# Altium schematic symbol library SCH_Wearing_sensor.SchLib: 56 symbols
Pins are listed as number, name and electrical type; pins without a type are passive.

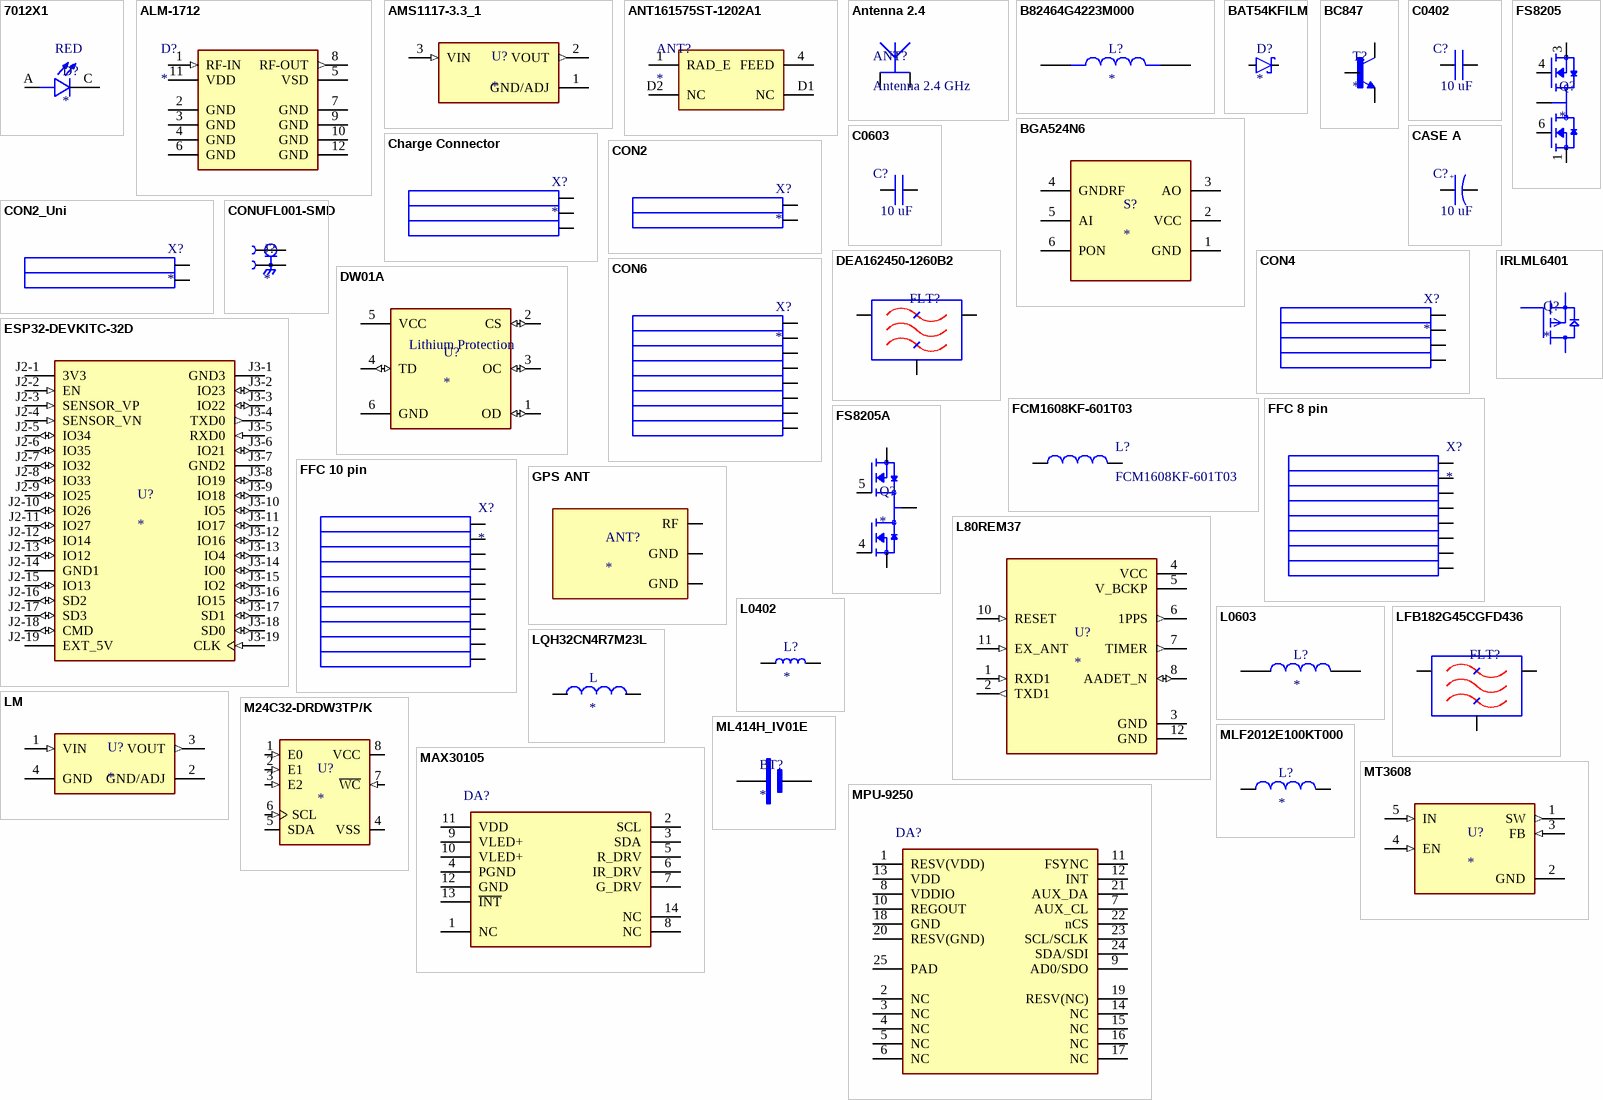
[diagram p0: symbols 7012X1 to MT3608]

## 7012X1
designator D?
Red - LED Indication - Discrete 1.7V 0805 (2012 Metric); Manufacturer: VCC; ManufacturerPartnumber: 7012X1; BOM: Светодиод    7012X1 VCC; Human_Readable: Светодиод; Footprint_Description: 0805 Visual Communications; Purchase-URL: https://pricing.snapeda.com/search/part/7012X1/?ref=eda; Value: *; Availability: In Stock; SnapEDA_Link: https://www.snapeda.com/parts/7012X1/Visual+Communications/view-part/?ref=snap; Price: None; Check_prices: https://www.snapeda.com/parts/7012X1/Visual+Communications/view-part/?ref=eda; Parameter 3: *; Parameter 4: *
footprint LED_7012X1
pins: A, C
text: RED

## ALM-1712
designator D?
Sot223/Pkg 1-Amp 3.3-Volt Low Drop Out Voltage Regulatator; MF: Advanced Monolithic Systems; MP: AMS1117-3.3; Package: SOT-223 Seeed Technology; Value: *; Check_prices: https://www.snapeda.com/parts/AMS1117-3.3/Advanced+Monolithic+Systems/view-part/?ref=eda; Price: None; Availability: Not in stock; SnapEDA_Link: https://www.snapeda.com/parts/AMS1117-3.3/Advanced+Monolithic+Systems/view-part/?ref=snap
footprint ALM-1712
pins: 1 RF-IN (in), 2 GND, 3 GND, 4 GND, 5 VSD (power), 6 GND, 7 GND, 8 RF-OUT (out), 9 GND, 10 GND, 11 VDD, 12 GND

## AMS1117-3.3_1
designator U?
Sot223/Pkg 1-Amp 3.3-Volt Low Drop Out Voltage Regulatator; MF: Advanced Monolithic Systems; MP: AMS1117-3.3; Package: SOT-223 Seeed Technology; Value: *; Check_prices: https://www.snapeda.com/parts/AMS1117-3.3/Advanced+Monolithic+Systems/view-part/?ref=eda; Price: None; Availability: Not in stock; SnapEDA_Link: https://www.snapeda.com/parts/AMS1117-3.3/Advanced+Monolithic+Systems/view-part/?ref=snap
footprint SOT229P700X180-4N
pins: 1 GND/ADJ (power), 2 VOUT (out), 3 VIN (in)

## ANT161575ST-1202A1
designator ANT?
ManufacturerPartnumber: AMAN1003030ST01; Manufacturer: AMOTECH; BOM: GPS Antenna    AMAN1003030ST01 AMOTECH; Human_Readable: GPS Antenna; Footprint_Description: Custom
footprint ANT161575ST1202A1
pins: 1 RAD_E, 4 FEED, D1 NC, D2 NC

## Antenna 2.4
designator ANT?, comment Antenna 2.4 GHz
footprint ANT2-SMD-9.5X2.1X1.0MM
pins: 1 0, 2 1

## B82464G4223M000
designator L?
MF: TDK ELECTRONICS; MP: B82464G4223M000; Check_prices: https://www.snapeda.com/parts/B82464G4223M000/TM+Electronics/view-part/?ref=eda; Package: None; Value: *; SnapEDA_Link: https://www.snapeda.com/parts/B82464G4223M000/TM+Electronics/view-part/?ref=snap; Purchase-URL: https://pricing.snapeda.com/search/part/B82464G4223M000/?ref=eda
footprint IND_B82464G4223M000
pins: 1, 2

## BAT54KFILM
designator D?
Diode Schottky; Manufacturer: STMicroelectronics; ManufacturerPartnumber: BAT54KFILM; BOM: Diode schottky    BAT54KFILM STMicroelectronics; Package: None; Price: None; Value: *; Availability: Unavailable; Footprint_Description: SOD523; Human_Readable: Diode schottky; Parameter 4: *
footprint SOD523
footprint SOD523
pins: 1 K, 2 A

## BC847
designator T?
<b>NPN TRANSISTOR</b>; MP: BC847; Availability: Unavailable; Package: None; Value: *; Price: None
footprint SOT23
pins: 1 B, 2 E, 3 C

## BGA524N6
designator S?
RF Switch SPDT 50MHz to 6GHz 21dB T/R; ManufacturerPartnumber: BGS12WN6E6327XTSA1; Manufacturer: Infineon; BOM: Усилитель GPS    BGS12WN6E6327XTSA1 Infineon; Human_Readable: Усилитель GPS; Price: None; Value: *; Availability: Unavailable; Package: None; Footprint_Description: PG-TSNP-6-1; Parameter 4: *
footprint SW_BGS12WN6E6327XTSA1
pins: 1 GND, 2 VCC, 3 AO, 4 GNDRF, 5 AI, 6 PON

## C0402
designator C?  value 10 uF  (hidden comment: *)
footprint C0402
pins: 1, 2

## C0603
designator C?  value 10 uF  (hidden comment: *)
footprint C0603
pins: 1, 2

## CASE A
designator C?  value 10 uF  (hidden comment: *)
Танталовых конденсатор в корупесе А
footprint CASE A
pins: 1, 2
text: +

## Charge Connector
designator X?
Выводы под плату зарядки
footprint POGO PINS
pins: 1, 2, 3

## CON2
designator X?
Коннектор двухконтактный; ManufacturerPartnumber: LP401230; Manufacturer: Robiton; BOM: Аккумулятор литий ионный    LP401230 Robiton; Human_Readable: Аккумулятор литий ионный; Footprint_Description: Custom
footprint CON2
footprint CON4_bat
pins: 1, 2

## CON2_Uni
designator X?
Коннектор для соединения плат; BOM: *    * *; ManufacturerPartnumber: *; Manufacturer: *; Footprint_Description: *; Human_Readable: *
footprint Con2_uni
pins: 1, 2

## CON4
designator X?
Коннектор 4-х контактный; ManufacturerPartnumber: PLS-4; Manufacturer: Connfly; BOM: Разъем 4 контакта    PLS-4 Connfly; Human_Readable: Разъем 4 контакта; Footprint_Description: PLS-4
footprint CON4
pins: 1, 2, 3, 4

## CON6
designator X?
Коннектор 6-ти контактный; ManufacturerPartnumber: PLS-4; Manufacturer: Connfly; BOM: Разъем 4 контакта    PLS-4 Connfly; Human_Readable: Разъем 4 контакта; Footprint_Description: PLS-4
footprint CON6
pins: 1, 2, 3, 4, 5, 6, 7, 8

## CONUFL001-SMD
designator J?
Manufacturer: TE Connectivity; ManufacturerPartnumber: 1909763-1; BOM: UMCC разъем    1909763-1 TE Connectivity; Human_Readable: UMCC разъем; Availability: In Stock; Price: None; SnapEDA_Link: https://www.snapeda.com/parts/CONUFL001-SMD/Linx/view-part/5842340/?ref=snap; Value: *; Check_prices: https://www.snapeda.com/parts/CONUFL001-SMD/Linx/view-part/5842340/?ref=eda; Package: None; Footprint_Description: UMCC; Parameter 4: *; Parameter 5: *
footprint LINX_CONUFL001-SMD
pins: 1, 2, 3 2

## DEA162450-1260B2
designator FLT?  (value not drawn)
Band Pass Filter TDK DEA162450-1260B2; BOM: Фильтр BLE    DEA162450-1260B2 TDK; Human_Readable: Фильтр BLE; ManufacturerPartnumber: DEA162450-1260B2; Manufacturer: TDK; Footprint_Description: SMD-3
footprint FIL_DEA160915LT-1169
pins: 1, 2, 3

## DW01A
designator U?
One Cell Lithium-ion/Polymer Battery Protection IC; MF: Fortune Semiconductor; MP: DW01A; SnapEDA_Link: https://www.snapeda.com/parts/DW01A/Fortune+Semiconductor/view-part/?ref=snap; Package: SOT-23-6 Fortune Semiconductor; Value: *; Check_prices: https://www.snapeda.com/parts/DW01A/Fortune+Semiconductor/view-part/?ref=eda
footprint SOT23-6
pins: 1 OD (io), 2 CS (io), 3 OC (io), 4 TD (io), 5 VCC (power), 6 GND (power)
text: Lithium Protection

## ESP32-DEVKITC-32D
designator U?
WiFi Development Tools (802.11) ESP32 General Development Kit, ESP32-WROOM-32D on the board; MF: Espressif Systems; MP: ESP32-DEVKITC-32D; SnapEDA_Link: https://www.snapeda.com/parts/ESP32-DEVKITC-32D/Espressif+Systems/view-part/?ref=snap; Package: None; Value: *; Check_prices: https://www.snapeda.com/parts/ESP32-DEVKITC-32D/Espressif+Systems/view-part/?ref=eda
footprint MODULE_ESP32-DEVKITC-32D
pins: J2-1 3V3 (power), J2-2 EN (in), J2-3 SENSOR_VP (in), J2-4 SENSOR_VN (in), J2-5 IO34 (io), J2-6 IO35 (io), J2-7 IO32 (io), J2-8 IO33 (io), J2-9 IO25 (io), J2-10 IO26 (io), J2-11 IO27 (io), J2-12 IO14 (io), J2-13 IO12 (io), J2-14 GND1 (power), J2-15 IO13 (io), J2-16 SD2 (io), J2-17 SD3 (io), J2-18 CMD (io), J2-19 EXT_5V (power), J3-1 GND3 (power), J3-2 IO23 (io), J3-3 IO22 (io), J3-4 TXD0 (out), J3-5 RXD0 (in), J3-6 IO21 (io), J3-7 GND2 (power), J3-8 IO19 (io), J3-9 IO18 (io), J3-10 IO5 (io), J3-11 IO17 (io), J3-12 IO16 (io), J3-13 IO4 (io), J3-14 IO0 (io), J3-15 IO2 (io), J3-16 IO15 (io), J3-17 SD1 (io), J3-18 SD0 (io), J3-19 CLK (in)

## FCM1608KF-601T03
designator L?
0; ManufacturerPartnumber: BLM18EG331TH1D; Manufacturer: Murata; BOM: Inductor    BLM18EG331TH1D Murata; Human_Readable: Inductor; SnapEDA_Link: https://www.snapeda.com/parts/BLM18EG331TH1D/Murata/view-part/2733946/?ref=snap; Price: None; Availability: Unavailable; Value: *; Footprint_Description: 0603 Murata; Parameter 3: *; Parameter 4: *
footprint BEADC1608X65N
footprint BEADC1608X65N
pins: 1, 2

## FFC 8 pin
designator X?
FFC connector 8 pin
footprint Charge Connector
footprint GCT_FFC2B35-08-G_REVA2
pins: 1, 2, 3, 4, 5, 6, 7, 8

## FFC 10 pin
designator X?
FFC connector 8 pin
footprint SAMTEC_ZF5S-10-01-T-WT
pins: 1, 2, 3, 4, 5, 6, 7, 8, 9, 10

## FS8205
designator Q?
Dual N-Channel Enhancement Mode Power MOSFET; MP: FS8205; MF: Fortune Semiconductor; SnapEDA_Link: https://www.snapeda.com/parts/FS8205/Fortune+Semiconductor/view-part/?ref=snap; Package: Package; Check_prices: https://www.snapeda.com/parts/FS8205/Fortune+Semiconductor/view-part/?ref=eda; Price: None; Value: *; Availability: Not in stock
footprint SOT95P280X145-6N
pins: 1 S1, 2 D12, 3 S2, 4 G2, 5 D12, 6 G1

## FS8205A
designator Q?
N/A; MP: FS8205A; MF: Fortune Semiconductor; Value: *; Availability: Not in stock; Package: Package; Price: None; SnapEDA_Link: https://www.snapeda.com/parts/FS8205A/Fortune+Semiconductor/view-part/?ref=snap; Check_prices: https://www.snapeda.com/parts/FS8205A/Fortune+Semiconductor/view-part/?ref=eda
footprint SOP65P640X120-8N
pins: 1 D12, 2 S1, 3 S1, 4 G1, 5 G2, 6 S2, 7 S2, 8 D12

## GPS ANT
designator ANT?
ManufacturerPartnumber: AMAN1003030ST01; Manufacturer: AMOTECH; BOM: GPS Antenna    AMAN1003030ST01 AMOTECH; Human_Readable: GPS Antenna; Footprint_Description: Custom
footprint ANTENNA GPS
pins: 1 RF, 2 GND, 3 GND

## IRLML6401
designator Q?
P-Channel 12V 4.3A (Ta) 1.3W (Ta) Surface Mount Micro3â„¢/SOT-23; Manufacturer: International Rectifier; ManufacturerPartnumber: IRLML6401; BOM: P-MOS    IRLML6401 International Rectifier; Human_Readable: P-MOS; Footprint_Description: SOT-23 International Rectifier; Value: *; Check_prices: https://www.snapeda.com/parts/IRLML6401/International%20Rectifier/view-part/557178/?ref=eda; Price: None; SnapEDA_Link: https://www.snapeda.com/parts/IRLML6401/International%20Rectifier/view-part/557178/?ref=snap; Availability: Unavailable; Parameter 3: *; Parameter 4: *
footprint SOT23
pins: 1 G, 2 S, 3 D

## L80REM37
designator U?
Navigation GPS Transceiver Module 1.575GHz Integrated, Ceramic Patch Surface Mount; ManufacturerPartnumber: L80REM37; Manufacturer: Quectel; BOM: *    L80REM37 Quectel; Package: None; Price: None; Purchase-URL: https://pricing.snapeda.com/search/part/L80REM37/?ref=eda; Availability: In Stock; Value: *; Check_prices: https://www.snapeda.com/parts/L80REM37/Quectel/view-part/?ref=eda; SnapEDA_Link: https://www.snapeda.com/parts/L80REM37/Quectel/view-part/?ref=snap; Footprint_Description: *; Human_Readable: *; Parameter 4: *
footprint XCVR_L80REM37
footprint XCVR_L80REM37
pins: 1 RXD1 (in), 2 TXD1 (out), 3 GND (power), 4 VCC (power), 5 V_BCKP (power), 6 1PPS (out), 7 TIMER (out), 8 AADET_N (io), 10 RESET (in), 11 EX_ANT (in), 12 GND (power)

## L0402
designator L?
Fixed Inductors 0402; MF: Murata; MP: LQG15HN1N5S00D; SnapEDA_Link: https://www.snapeda.com/parts/LQG15HN1N5S00D/Murata/view-part/1646487/?ref=snap; Price: None; Check_prices: https://www.snapeda.com/parts/LQG15HN1N5S00D/Murata/view-part/1646487/?ref=eda; Value: *; Availability: Bad; Package: 0402 Murata
footprint L0402
pins: 1, 2

## L0603
designator L?
Inductor with Inductance 10uH Tol.+/-20% Package 0603 (1608); MF: Murata; MP: LQM18DN100M70B; Value: *; Price: None; Package: 0603 Murata; Check_prices: https://www.snapeda.com/parts/LQM18DN100M70B/Murata/view-part/4901244/?ref=eda; SnapEDA_Link: https://www.snapeda.com/parts/LQM18DN100M70B/Murata/view-part/4901244/?ref=snap; Availability: Bad
footprint L0603
pins: 1, 2

## LFB182G45CGFD436
designator FLT?  (value not drawn)
Band Pass Filter Murata LFB182G45CGFD436; BOM: Фильтр BLE    LFB182G45CGFD436 Murata; Human_Readable: Фильтр BLE; ManufacturerPartnumber: LFB182G45CGFD436; Manufacturer: Murata; Footprint_Description: SMD-3
footprint FIL_LFB182G45CGFD436
pins: 1, 2, 3

## LM
designator U?
Sot223/Pkg 1-Amp 3.3-Volt Low Drop Out Voltage Regulatator; ManufacturerPartnumber: LM3940IMP-3.3; Manufacturer: Texas Instruments; MF: Advanced Monolithic Systems; MP: AMS1117-3.3; BOM: LDO    LM3940IMP-3.3 Texas Instruments; Human_Readable: LDO; Footprint_Description: SOT-223 Seeed Technology; Value: *; Check_prices: https://www.snapeda.com/parts/AMS1117-3.3/Advanced+Monolithic+Systems/view-part/?ref=eda; Price: None; Availability: Not in stock; SnapEDA_Link: https://www.snapeda.com/parts/AMS1117-3.3/Advanced+Monolithic+Systems/view-part/?ref=snap
footprint SOT229P700X180-4N
pins: 1 VIN (in), 2 GND/ADJ (power), 3 VOUT (out), 4 GND

## LQH32CN4R7M23L
designator L
Inductor with Inductance: 4.7uH Tol. +/-20%, Package: 1210 _3225_; MF: Murata; MP: LQH32CN4R7M23L; Price: None; Value: *; Availability: Unavailable; SnapEDA_Link: https://www.snapeda.com/parts/LQH32CN4R7M23L/Murata/view-part/4550092/?ref=snap; Package: Nonstandard Murata
footprint IND_LQH32CN4R7M23L
pins: 1, 2

## M24C32-DRDW3TP/K
designator U?
M24C02-F Series 2 Kb (256 x 8) 5.5 V Serial IÂ²C bus EEPROMs - TSSOP-8; ManufacturerPartnumber: M24C32-DRDW3TP/K; Manufacturer: STMicroelectronics; BOM: EEPROM    M24C32-DRDW3TP/K STMicroelectronics; Human_Readable: EEPROM; Package: None; Price: None; Value: *; Availability: Unavailable; Footprint_Description: TSSOP8
footprint SOP65P640X120-8N
pins: 1 E0 (in), 2 E1 (in), 3 E2 (in), 4 VSS (power), 5 SDA (io), 6 SCL (in), 7 ~{WC} (in), 8 VCC (power)

## MAX30105
designator DA?  (value not drawn)
Manufacturer: MAX; BOM: Датчик пульса    MPU-9250 MAX; Human_Readable: Датчик пульса; ComponentLink1Description: Help; ComponentLink1URL: D:\HSE\Трекер физ состояния\Help\MAX30105.pdf; HelpURL: D:\HSE\Трекер физ состояния\Help\MAX30105.pdf; ManufacturerPartnumber: MPU-9250; Footprint_Description: Custom
footprint MAX30105
pins: 1 NC, 2 SCL, 3 SDA, 4 PGND, 5 R_DRV, 6 IR_DRV, 7 G_DRV, 8 NC, 9 VLED+, 10 VLED+, 11 VDD, 12 GND, 13 ~{INT}, 14 NC

## ML414H_IV01E
designator BT?
Coin, 4.8mm 3 V Lithium Battery Rechargeable (Secondary) 1mAh; MP: ML414H IV01E; MF: Seiko Instruments; Human_Readable: Перезаряжаемая батарейка; BOM: Перезаряжаемая батарейка    ML414H IV01E Seiko Instruments; Price: None; Purchase-URL: https://pricing.snapeda.com/search/part/ML414H IV01E/?ref=eda; Package: SOT-89 Seiko; Check_prices: https://www.snapeda.com/parts/ML414H%20IV01E/Seiko+Instruments/view-part/?ref=eda; Value: *; Availability: In Stock; ManufacturerPartnumber: ML414H IV01E; Manufacturer: Seiko Instruments; Footprint_Description: SOT-89 Seiko
footprint SEIKO_ML414H_IV01E
pins: 1 POS, 2 NEG

## MLF2012E100KT000
designator L?
10 ÂµH Shielded Multilayer Inductor 15 mA 800mOhm Max 0805 (2012 Metric); MF: TDK; Value: 10 uH; MP: MLF2012E100KT000; BOM: MLF2012E100KT000 TDK; Package: 0805 TDK Corporation; Price: None; Check_prices: https://www.snapeda.com/parts/MLF2012E100KT000/TDK/view-part/?ref=eda; Availability: In Stock; Purchase-URL: https://pricing.snapeda.com/search?q=MLF2012E100KT000&ref=eda; ManufacturerPartnumber: MLF2012E100KT000; Manufacturer: TDK; Footprint_Description: 0805 TDK Corporation
footprint INDC2012X145N
footprint INDC2012X145N
pins: 1, 2

## MPU-9250
designator DA?, comment IventSense_MPU-9250  (value not drawn)
Manufacturer: InvenSense; Help: D:\HSE\Трекер физ состояния\Help\mpu9265.pdf; BOM: Акселерометр    MPU-9250 InvenSense; Human_Readable: Акселерометр; ComponentLink1Description: Help; ComponentLink1URL: D:\HSE\Трекер физ состояния\Help\mpu9265.pdf; ManufacturerPartnumber: MPU-9250; Footprint_Description: QFN23 3x3
footprint QFN24 3x3x1mm
pins: 1 RESV(VDD), 2 NC, 3 NC, 4 NC, 5 NC, 6 NC, 7 AUX_CL, 8 VDDIO, 9 AD0/SDO, 10 REGOUT, 11 FSYNC, 12 INT, 13 VDD, 14 NC, 15 NC, 16 NC, 17 NC, 18 GND, 19 RESV(NC), 20 RESV(GND), 21 AUX_DA, 22 nCS, 23 SCL/SCLK, 24 SDA/SDI, 25 PAD

## MT3608
designator U?
High Efficiency 1.2MHz2A Step Up Converter; MP: MT3608; MF: Aerosemi Technology Co., Ltd; Price: None; Availability: Not in stock; Package: Package; Value: *; SnapEDA_Link: https://www.snapeda.com/parts/MT3608/Aerosemi+Technology+Co.%252C+Ltd/view-part/?ref=snap; Check_prices: https://www.snapeda.com/parts/MT3608/Aerosemi+Technology+Co.%252C+Ltd/view-part/?ref=eda
footprint SOT95P280X145-6N
pins: 1 SW (out), 2 GND (power), 3 FB (in), 4 EN (in), 5 IN (in)

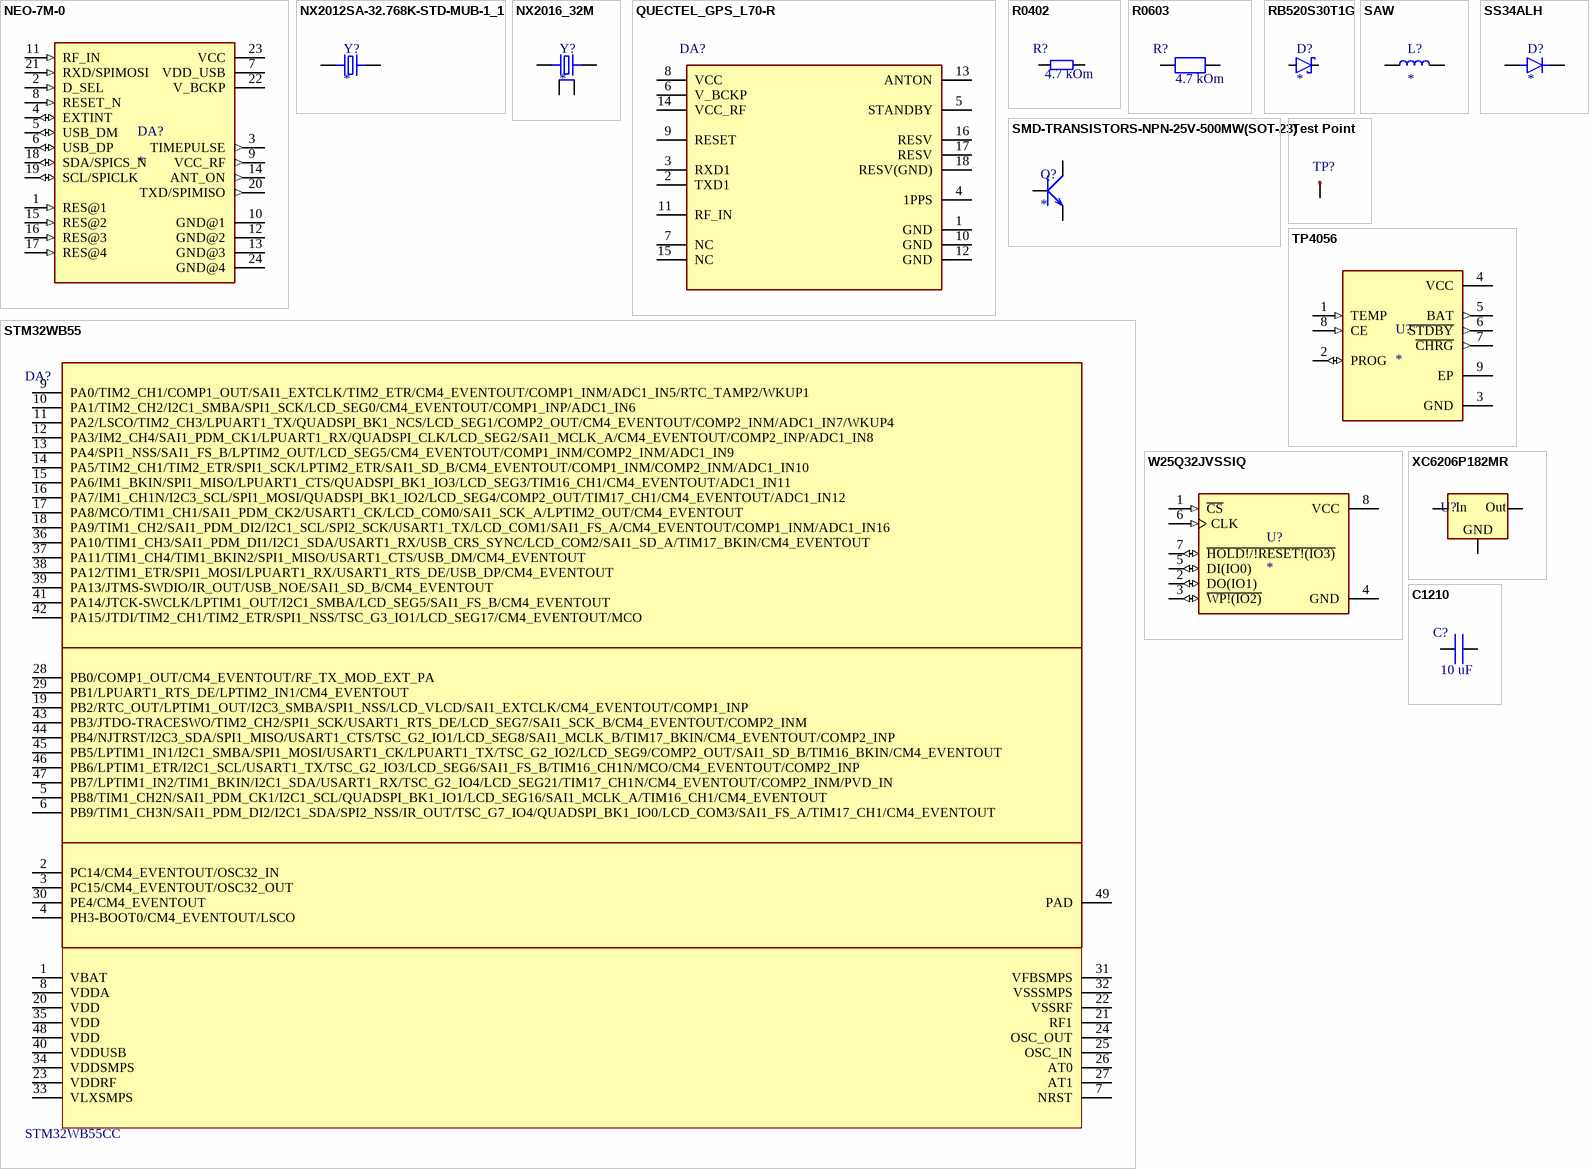
[diagram p1: symbols NEO-7M-0 to С1210]

## NEO-7M-0
designator DA?
NEO-7 RF Receiver GLONASS, GNSS, GPS 1.575GHz -161dBm; MP: NEO-7M-0; MF: U-Blox America; BOM: NEO-7M-0 U-Blox America; Availability: Unavailable; Package: SMD-24 u-blox; SnapEDA_Link: https://www.snapeda.com/parts/NEO-7M-0/U-Blox%20America%20Inc./view-part/48598/?ref=snap; Value: *; ManufacturerPartnumber: NEO-7M-0; Manufacturer: U-Blox America; Footprint_Description: SMD-24 u-blox
footprint XCVR_NEO-7M-0
pins: 1 RES@1 (in), 2 D_SEL (in), 3 TIMEPULSE (out), 4 EXTINT (io), 5 USB_DM (io), 6 USB_DP (io), 7 VDD_USB (power), 8 RESET_N (in), 9 VCC_RF (out), 10 GND@1 (power), 11 RF_IN (in), 12 GND@2 (power), 13 GND@3 (power), 14 ANT_ON (out), 15 RES@2 (in), 16 RES@3 (in), 17 RES@4 (in), 18 SDA/SPICS_N (io), 19 SCL/SPICLK (io), 20 TXD/SPIMISO (out), 21 RXD/SPIMOSI (in), 22 V_BCKP (power), 23 VCC (power), 24 GND@4 (power)

## NX2012SA-32.768K-STD-MUB-1_1
designator Y?
32.768 kHz Â±20ppm Crystal 12.5pF 80 kOhms 2-SMD, No Lead; MF: NDK America,; MP: NX2012SA-32.768K-STD-MUB-1; BOM: 32 kHz Crystal    NX2012SA-32.768K-STD-MUB-1 NDK America,; Human_Readable: 32 kHz Crystal; Package: SMD-2 NDK; Price: None; Check_prices: https://www.snapeda.com/parts/NX2012SA-32.768K-STD-MUB-1/NDK+America%252C+Inc./view-part/?ref=eda; Value: *; SnapEDA_Link: https://www.snapeda.com/parts/NX2012SA-32.768K-STD-MUB-1/NDK+America%252C+Inc./view-part/?ref=snap; Availability: In Stock; Purchase-URL: https://pricing.snapeda.com/search/part/NX2012SA-32.768K-STD-MUB-1/?ref=eda; ManufacturerPartnumber: NX2012SA-32.768K-STD-MUB-1; Manufacturer: NDK America,; Footprint_Description: SMD-2 NDK
footprint XTAL_NX2012SA-32.768K-STD-MUB-1
footprint XTAL_NX2012SA-32.768K-STD-MUB-1
pins: 1, 2

## NX2016_32M
designator Y?
32 MHz  Crystal; ManufacturerPartnumber: NX2016SA-32MHZ; MF: NDK America,; Value: 32 MHz; MP: NX2012SA-32.768K-STD-MUB-1; BOM: Crystal 32MHz    NX2016SA-32MHZ NDK America,; Human_Readable: Crystal 32MHz; Package: SMD-2 NDK; Price: None; Check_prices: https://www.snapeda.com/parts/NX2012SA-32.768K-STD-MUB-1/NDK+America%252C+Inc./view-part/?ref=eda; SnapEDA_Link: https://www.snapeda.com/parts/NX2012SA-32.768K-STD-MUB-1/NDK+America%252C+Inc./view-part/?ref=snap; Availability: In Stock; Purchase-URL: https://pricing.snapeda.com/search/part/NX2012SA-32.768K-STD-MUB-1/?ref=eda; Manufacturer: NDK America,; Footprint_Description: SMD-2 NDK
footprint NX2016_32M (Crystal 32M)
pins: 1 4, 2 1, 3, 4 2

## QUECTEL_GPS_L70-R
designator DA?, comment QUECTEL_L70-R_GPS  (value not drawn)
BOM: *    QUECTEL_L70-R_GPS *; ComponentLink1Description: Help; ComponentLink1URL: D:\HSE\Трекер физ состояния\Help\GPS_L70-R.pdf; ManufacturerPartnumber: QUECTEL_L70-R_GPS; Manufacturer: *; Footprint_Description: *; Human_Readable: *
footprint QUECTEL_L70-R
pins: 1 GND, 2 TXD1, 3 RXD1, 4 1PPS, 5 STANDBY, 6 V_BCKP, 7 NC, 8 VCC, 9 RESET, 10 GND, 11 RF_IN, 12 GND, 13 ANTON, 14 VCC_RF, 15 NC, 16 RESV, 17 RESV, 18 RESV(GND)

## R0402
designator R?  value 4.7 kOm
Резистор 0402
footprint R0402
pins: 1, 2

## R0603
designator R?  value 4.7 kOm
Резистор 0603
footprint R0603
pins: 1, 2

## RB520S30T1G
designator D?
Diode Schottky 30 V 200mA (DC) Surface Mount SOD-523; Manufacturer: NXP Semiconductors; MP: 1PS79SB70; Human_Readable: Diode Schotky; BOM: Diode Schotky    1PS79SB70 NXP Semiconductors; Package: None; Price: None; Value: *; ManufacturerPartnumber: 1PS79SB70; Footprint_Description: SOD523
footprint SOD523
footprint SOD523
pins: 1 K, 2 A

## SAW
designator L?
Fixed Inductors 0402; ManufacturerPartnumber: SAFEA1G58KA0F00R15; MF: Murata; MP: LQG15HN1N5S00D; BOM: Фильтр GPS    SAFEA1G58KA0F00R15 Murata; Human_Readable: Фильтр GPS; SnapEDA_Link: https://www.snapeda.com/parts/LQG15HN1N5S00D/Murata/view-part/1646487/?ref=snap; Price: None; Check_prices: https://www.snapeda.com/parts/LQG15HN1N5S00D/Murata/view-part/1646487/?ref=eda; Value: *; Availability: Bad; Package: 0402 Murata; Manufacturer: Murata; Footprint_Description: Custom
footprint SAW Filter; pin to pad 2>4
pins: 1, 2

## SMD-TRANSISTORS-NPN-25V-500MW(SOT-23)
designator Q?
Bipolar (BJT) Transistor NPN 25 V 500 mA 150MHz 300 mW Surface Mount SOT-23; MF: UMW; MP: S8050; Purchase-URL: https://pricing.snapeda.com/search/part/S8050/?ref=eda; Check_prices: https://www.snapeda.com/parts/S8050/Umwelt+Sensor+Teknik/view-part/?ref=eda; SnapEDA_Link: https://www.snapeda.com/parts/S8050/Umwelt+Sensor+Teknik/view-part/?ref=snap; Price: None; Availability: In Stock; Package: None; Value: *; Parameter 1: *; Parameter 2: *; Parameter 3: *; Parameter 4: *
footprint SOT23
pins: 1 B, 2 E, 3 C

## SS34ALH
designator D?
3A, 40V, Schottky Rectifier; MP: SS34ALH; MF: Taiwan Semiconductor; Package: DO-221AC Taiwan Semiconductor; Value: *; SnapEDA_Link: https://www.snapeda.com/parts/SS34ALH/Taiwan+Semiconductor/view-part/?ref=snap; Availability: Not in stock; Price: None; Check_prices: https://www.snapeda.com/parts/SS34ALH/Taiwan+Semiconductor/view-part/?ref=eda
footprint SODFL5226X100N
pins: 1 K, 2 A

## STM32WB55
designator DA?, comment STM32WB55CC
Manufacturer: STMicroelectronics; BOM: Микроконтроллер    STM32WB55CC STMicroelectronics; Human_Readable: Микроконтроллер; ComponentLink1Description: Help; ComponentLink1URL: D:\HSE\Трекер физ состояния\Help\stm32wb55cc.pdf; Footprint_Description: QFN48; ManufacturerPartnumber: STM32WB55CC
footprint UFQFPN48
pins: 1 VBAT, 2 PC14/CM4_EVENTOUT/OSC32_IN, 3 PC15/CM4_EVENTOUT/OSC32_OUT, 4 PH3-BOOT0/CM4_EVENTOUT/LSCO, 5 PB8/TIM1_CH2N/SAI1_PDM_CK1/I2C1_SCL/QUADSPI_BK1_IO1/LCD_SEG16/SAI1_MCLK_A/TIM16_CH1/CM4_EVENTOUT, 6 PB9/TIM1_CH3N/SAI1_PDM_DI2/I2C1_SDA/SPI2_NSS/IR_OUT/TSC_G7_IO4/QUADSPI_BK1_IO0/LCD_COM3/SAI1_FS_A/TIM17_CH1/CM4_EVENTOUT, 7 NRST, 8 VDDA, 9 PA0/TIM2_CH1/COMP1_OUT/SAI1_EXTCLK/TIM2_ETR/CM4_EVENTOUT/COMP1_INM/ADC1_IN5/RTC_TAMP2/WKUP1, 10 PA1/TIM2_CH2/I2C1_SMBA/SPI1_SCK/LCD_SEG0/CM4_EVENTOUT/COMP1_INP/ADC1_IN6, 11 PA2/LSCO/TIM2_CH3/LPUART1_TX/QUADSPI_BK1_NCS/LCD_SEG1/COMP2_OUT/CM4_EVENTOUT/COMP2_INM/ADC1_IN7/WKUP4, 12 PA3/IM2_CH4/SAI1_PDM_CK1/LPUART1_RX/QUADSPI_CLK/LCD_SEG2/SAI1_MCLK_A/CM4_EVENTOUT/COMP2_INP/ADC1_IN8, 13 PA4/SPI1_NSS/SAI1_FS_B/LPTIM2_OUT/LCD_SEG5/CM4_EVENTOUT/COMP1_INM/COMP2_INM/ADC1_IN9, 14 PA5/TIM2_CH1/TIM2_ETR/SPI1_SCK/LPTIM2_ETR/SAI1_SD_B/CM4_EVENTOUT/COMP1_INM/COMP2_INM/ADC1_IN10, 15 PA6/IM1_BKIN/SPI1_MISO/LPUART1_CTS/QUADSPI_BK1_IO3/LCD_SEG3/TIM16_CH1/CM4_EVENTOUT/ADC1_IN11, 16 PA7/IM1_CH1N/I2C3_SCL/SPI1_MOSI/QUADSPI_BK1_IO2/LCD_SEG4/COMP2_OUT/TIM17_CH1/CM4_EVENTOUT/ADC1_IN12, 17 PA8/MCO/TIM1_CH1/SAI1_PDM_CK2/USART1_CK/LCD_COM0/SAI1_SCK_A/LPTIM2_OUT/CM4_EVENTOUT, 18 PA9/TIM1_CH2/SAI1_PDM_DI2/I2C1_SCL/SPI2_SCK/USART1_TX/LCD_COM1/SAI1_FS_A/CM4_EVENTOUT/COMP1_INM/ADC1_IN16, 19 PB2/RTC_OUT/LPTIM1_OUT/I2C3_SMBA/SPI1_NSS/LCD_VLCD/SAI1_EXTCLK/CM4_EVENTOUT/COMP1_INP, 20 VDD, 21 RF1, 22 VSSRF, 23 VDDRF, 24 OSC_OUT, 25 OSC_IN, 26 AT0, 27 AT1, 28 PB0/COMP1_OUT/CM4_EVENTOUT/RF_TX_MOD_EXT_PA, 29 PB1/LPUART1_RTS_DE/LPTIM2_IN1/CM4_EVENTOUT, 30 PE4/CM4_EVENTOUT, 31 VFBSMPS, 32 VSSSMPS, 33 VLXSMPS, 34 VDDSMPS, 35 VDD, 36 PA10/TIM1_CH3/SAI1_PDM_DI1/I2C1_SDA/USART1_RX/USB_CRS_SYNC/LCD_COM2/SAI1_SD_A/TIM17_BKIN/CM4_EVENTOUT, 37 PA11/TIM1_CH4/TIM1_BKIN2/SPI1_MISO/USART1_CTS/USB_DM/CM4_EVENTOUT, 38 PA12/TIM1_ETR/SPI1_MOSI/LPUART1_RX/USART1_RTS_DE/USB_DP/CM4_EVENTOUT, 39 PA13/JTMS-SWDIO/IR_OUT/USB_NOE/SAI1_SD_B/CM4_EVENTOUT, 40 VDDUSB, 41 PA14/JTCK-SWCLK/LPTIM1_OUT/I2C1_SMBA/LCD_SEG5/SAI1_FS_B/CM4_EVENTOUT, 42 PA15/JTDI/TIM2_CH1/TIM2_ETR/SPI1_NSS/TSC_G3_IO1/LCD_SEG17/CM4_EVENTOUT/MCO, 43 PB3/JTDO-TRACESWO/TIM2_CH2/SPI1_SCK/USART1_RTS_DE/LCD_SEG7/SAI1_SCK_B/CM4_EVENTOUT/COMP2_INM, 44 PB4/NJTRST/I2C3_SDA/SPI1_MISO/USART1_CTS/TSC_G2_IO1/LCD_SEG8/SAI1_MCLK_B/TIM17_BKIN/CM4_EVENTOUT/COMP2_INP, 45 PB5/LPTIM1_IN1/I2C1_SMBA/SPI1_MOSI/USART1_CK/LPUART1_TX/TSC_G2_IO2/LCD_SEG9/COMP2_OUT/SAI1_SD_B/TIM16_BKIN/CM4_EVENTOUT, 46 PB6/LPTIM1_ETR/I2C1_SCL/USART1_TX/TSC_G2_IO3/LCD_SEG6/SAI1_FS_B/TIM16_CH1N/MCO/CM4_EVENTOUT/COMP2_INP, 47 PB7/LPTIM1_IN2/TIM1_BKIN/I2C1_SDA/USART1_RX/TSC_G2_IO4/LCD_SEG21/TIM17_CH1N/CM4_EVENTOUT/COMP2_INM/PVD_IN, 48 VDD, 49 PAD

## Test Point
designator TP?  (value not drawn)
footprint Test point
pins: 1

## TP4056
designator U?
Complete single cell Li-Ion battery with a constant current / constant voltage linear charger; MF: NanJing Top Power ASIC Corp.; MP: TP4056; Check_prices: https://www.snapeda.com/parts/TP4056/NanJing+Top+Power+ASIC+Corp./view-part/?ref=eda; SnapEDA_Link: https://www.snapeda.com/parts/TP4056/NanJing+Top+Power+ASIC+Corp./view-part/?ref=snap; Price: None; Availability: Not in stock; Package: Package; Value: *
footprint SOP127P600X175-9N
pins: 1 TEMP (in), 2 PROG (io), 3 GND (power), 4 VCC (power), 5 BAT (out), 6 ~{STDBY} (out), 7 ~{CHRG} (out), 8 CE (in), 9 EP

## W25Q32JVSSIQ
designator U?
FLASH - NOR Memory IC 32Mb _4M x 8_ SPI - Quad I/O 133MHz 8-SOIC; MF: Winbond; BOM: SPI Flash    W25Q32JVSSIQ Winbond; MP: W25Q32JVSSIQ; Human_Readable: SPI Flash; Package: SOIC-8 Winbond; Price: None; SnapEDA_Link: https://www.snapeda.com/parts/W25Q32JVSSIQ/Winbond%20Electronics/view-part/596953/?ref=snap; Availability: Unavailable; ManufacturerPartnumber: W25Q32JVSSIQ; Manufacturer: Winbond; Footprint_Description: SOIC-8 Winbond
footprint SOIC127P790X216-8N
pins: 1 ~{CS} (in), 2 DO(IO1) (io), 3 ~{WP!(IO2)} (io), 4 GND (power), 5 DI(IO0) (io), 6 CLK (in), 7 ~{HOLD!/!RESET!(IO3)} (io), 8 VCC (power)

## XC6206P182MR
designator U?  (value not drawn)
LDO 1v8; ManufacturerPartnumber: XC6206P182MR; Manufacturer: UMW; BOM: LDO 1V8    XC6206P182MR UMW; Footprint_Description: SOT23; Human_Readable: LDO 1V8
footprint SOT23
pins: 1, 2, 3
text: In; Out; GND

## С1210
designator C?  value 10 uF  (hidden comment: *)
footprint CAPC3225X280
pins: 1, 2